# EAGLE library part 4X2 (library con-header)
2 row smd degugging header
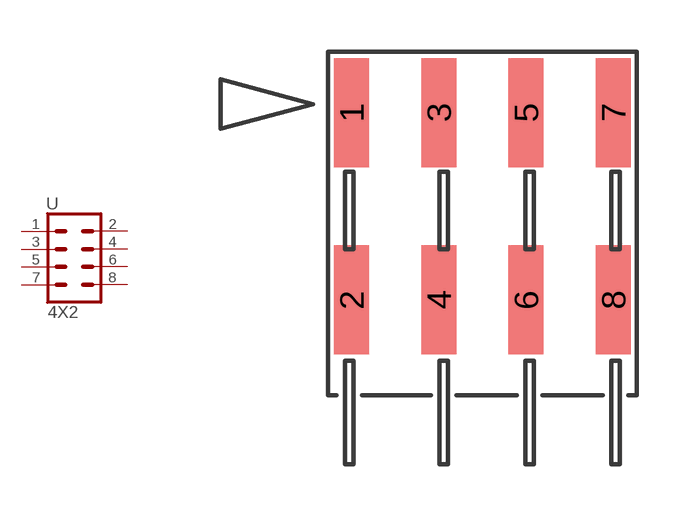
[diagram p0: symbol with the pads of SMD; footprint SMD]

Designator prefix -

## 4X2 (MF: WEILICHUANG ELECTRONIC; MPN: 1225-12-2)  [SMD]
1  1  pas
2  2  pas
3  3  pas
4  4  pas
5  5  pas
6  6  pas
7  7  pas
8  8  pas

## Footprint SMD (pad centres in mm)
smd 1.02 x 3.17: 1 -3.81,2.725; 2 -3.81,-2.725; 3 -1.27,2.725; 4 -1.27,-2.725; 5 1.27,2.725; 6 1.27,-2.725; 7 3.81,2.725; 8 3.81,-2.725